# EAGLE library part THB001P (library THB001P)
THUMBSTICK, 0.05A, 12VDC, 2 AXIS, PCB; No. of Axes:2; Track Resistance:10kohm; Supply Voltage Max:-; No. of Switch Positions:-; Contact Current AC Max:-; Contact Voltage AC Max:50V; Rotation Electrical Angle:36 Source: Datasheet <https://www.ckswitches.com/media/2873/thb.pdf>
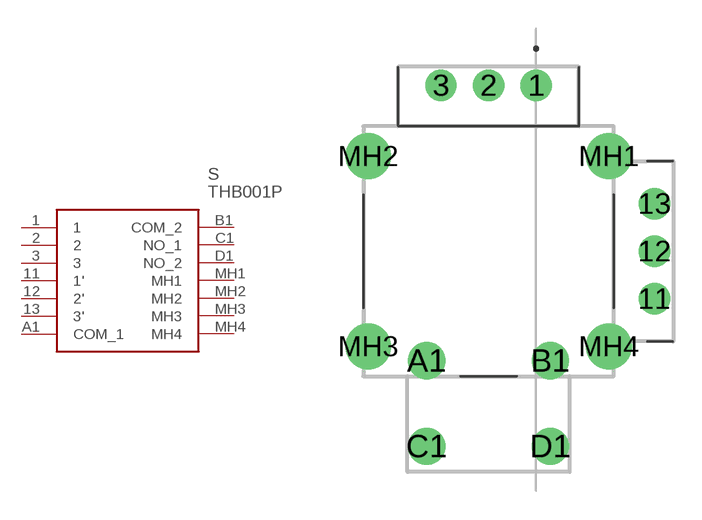
[diagram p0: symbol with the pads of THB001P; footprint THB001P]

Designator prefix S

## THB001P (Description: THUMBSTICK, 0.05A, 12VDC, 2 AXIS, PCB; No. of Axes:2; Track Resistance:10kohm; Supply Voltage Max:-; No. of Switch Positions:-; Contact Current AC Max:-; Contact Voltage AC Max:50V; Rotation Electrical Angle:36; Height: 19.85mm; Manufacturer_Name: C & K COMPONENTS; Manufacturer_Part_Number: THB001P; Mouser_Part_Number: 611-THB001P; Mouser_Price-Stock: https://www.mouser.co.uk/ProductDetail/CK/THB001P?qs=OlC7AqGiEDlMaVQ%2FEBrivA%3D%3D)  [THB001P]
1  1
2  2
3  3
11  1'
12  2'
13  3'
A1  COM_1
B1  COM_2
C1  NO_1
D1  NO_2
MH1  MH1
MH2  MH2
MH3  MH3
MH4  MH4

## Footprint THB001P (pad centres in mm)
THB001P-5
drill 1.1 pad 1.65: 1 0,0; 2 -2.5,0; 3 -5,0; 11 6.23,-11.23; 12 6.23,-8.73; 13 6.23,-6.23
drill 1.3 pad 1.95: A1 -5.75,-14.48; B1 0.75,-14.48; C1 -5.75,-18.98; D1 0.75,-18.98
drill 1.6 pad 2.4: MH1 3.825,-3.73; MH2 -8.825,-3.73; MH3 -8.825,-13.73; MH4 3.825,-13.73